# Altium schematic symbol library JWB-001_Charger.SCHLIB: 6 symbols
Pins are listed as number, name and electrical type; pins without a type are passive.

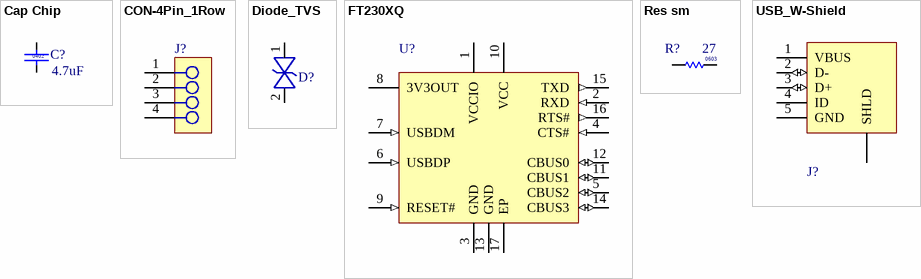
[diagram p0: symbols Cap Chip to USB_W-Shield]

## Cap Chip
designator C?, comment value 4.7uF  Size: 0402  (hidden comment: Cap 0402 4.7uF 10V4.7uF)
Cap, Ceramic 4.7uF 10V 20% X5R 0402; Manufacturer P/N: CL05A475MP5NRNC; Manufacturer: Samsung; Manufacturer 2 P/N: C1005X5R1A475M050BC; Vendor: Digikey; Vendor P/N: 1276-1482-1-ND; Added By: Jeremy D; Part Number: Cap 0402 4.7uF 10V; Tolerance: 20%; Voltage: 10V; Manufacturer 2: TDK; Temp Coefficient: X5R; Height: 0.55m; Added Date: 2/1/2015; Checked By: Paul B; Checked Date: 2/5/2015
simulation model CAP (Semiconductor Capacitor)
signal-integrity model Cap Semi
footprint Cap 0402 HD
pins: 1, 2

## CON-4Pin_1Row
designator J?, comment 854-22-004-30-001101  (value not drawn)
Spring Loaded Header 0.05" Pitch, 4Pin, 4x1, 4.98mm - 6.4mm Height; Manufacturer: Mill-Max; Contacts: 4; Rows: 1; Locking: No; Vendor: Mouser; Vendor P/N: 575-854-22-004-30; Added By: Jeremy D; Part Number: 854-22-004-30-001101; Manufacturer P/N: 854-22-004-30-001101; Size: 5.47mm x 2.21mm; Height: 6.4mm; Pin Pitch: 0.05"; Keyed: No; Added Date: 2/23/2015; Checked By: Cam N; Checked Date: 2/27/2015
footprint HDR.050P-4Pin-SMT-R
pins: 1, 2, 3, 4

## Diode_TVS
designator D?, comment SESD0402P1BN-0450-0906V  (value not drawn)
ESD TVS Diode, 16kV air, 0402; Manufacturer: TE Connectivity; Voltage Rated: 6V; Vendor: Digikey; Vendor P/N: SESD0402P1BN-0450-090CT-ND; Added By: Jeremy D; Part Number: SESD0402P1BN-0450-090; Manufacturer P/N: SESD0402P1BN-0450-090; Size: 1.1mm x 0.5mm; Package: 0402; Height: 0.6mm; Type: TVS; Added Date: 2/1/2015; Checked By: Paul B; Checked Date: 2/5/2015
footprint CAP 0402 HD
pins: 1, 2

## FT230XQ
designator U?  (value not drawn)
USB to UART converter IC, Single channel with flow control, QFN-16; Manufacturer: FTDI; Manufacturer P/N: FT230XQ-R; Voltage-Rated: 5.5V; Vendor: Digikey; Vendor P/N: 768-1130-1-ND; 1k Price: 1.46; Added By: Jeremy D; Part Number: FT230XQ; MFG Footprint: QFN-16; Height: .8mm; Size: 4.1mm x 4.1mm; Packaging: Tape & Reel; Features: USB to UART with flow control; Controller Interface: UART; Added Date: 3/5/2015
footprint QFN0.65P4x4-16Pin_W-Pad
pins: 1 VCCIO (power) "1V8 -3V3 supply for the IO cells.", 2 RXD (in) "Receiving Asynchronous Data Input.", 3 GND (power) "0V Ground input.", 4 CTS# (in) "Clear To Send Control Input / Handshake Signal.", 5 CBUS2 (io) "Configurable CBUS I/O Pin. Function of this pin is configured in the device MTP memory. The default configuration is TXLED#.", 6 USBDP (in) "USB Data Signal Plus.", 7 USBDM (in) "USB Data Signal Minus.", 8 3V3OUT (power) "3V3 output at 50mA. May be used to power VCCIO. When VCC is 3V3; pin 8 is an input pin and should be connected to pin 10.", 9 RESET# (in) "Reset input (active low).", 10 VCC (power) "5 V (or 3V3) supply to IC.", 11 CBUS1 (io) "Configurable CBUS I/O Pin. Function of this pin is configured in the device MTP memory. The default configuration is RXLED#.", 12 CBUS0 (io) "Configurable CBUS I/O Pin. Function of this pin is configured in the device MTP memory. The default configuration is TXDEN.", 13 GND (power) "0V Ground input.", 14 CBUS3 (io) "Configurable CBUS I/O Pin. Function of this pin is configured in the device MTP memory. The default configuration is SLEEP#.", 15 TXD (out) "Transmit Asynchronous Data Output.", 16 RTS# (out) "Request to Send Control Output / Handshake Signal.", 17 EP (power) "Exposed Pad. Connect to GND."

## Res sm
designator R?, comment value 27  Size: 0603  (hidden comment: Res 0603 27R 5%27)
Resistor 27 ohm 5%, 1/10W, 0603; Manufacturer P/N: MCR03ERTJ270; Manufacturer: Rohm; Manufacturer 2 P/N: RC1608J270CS; Vendor: Digikey; Vendor P/N: RHM27CGCT-ND; Added By: Jeremy D; Part Number: Res 0603 27R 5%; Manufacturer 2: Samsung; Tolerance: 5%; Height: .55mm; Power: 1/10W; Added Date: 3/5/2015
simulation model RESISTOR (Resistor)
signal-integrity model Res
footprint RES 0603 HD
footprint RES 0603
pins: 1, 2

## USB_W-Shield
designator J?, comment USB_Micro_B_W-Tabs  (value not drawn)
USB Micro B Receptacle, Right Angle, SMT with 4 TH Tabs; Manufacturer: FCI; Manufacturer P/N: 10118194-0001LF; Manufacturer 2 P/N: ZX62D-B-5P8; Contacts: 6; Rows: 1; Pin Pitch: 0.65mm; Locking: No; Keyed: Yes; Vendor: Digikey; Vendor P/N: 609-4618-1-ND; Added By: Jeremy D; Part Number: USB_Micro_B_W-Tabs; Manufacturer 2: Hirose; Size: 8mm x 5mm; Height: 2.8mm; Added Date: 3/5/2015
footprint USB_Micro_RA_W-TABS (Footprint not found)
pins: 1 VBUS (power), 2 D- (io), 3 D+ (io), 4 ID, 5 GND (power), 6 SHLD